# Altium footprint library THT_potantiometer_pcb.PcbLib: 1 footprints
Each footprint in its own frame and in the unit in brackets; x right, y up, seen from the top. Pads: shape width x height; smd on the part's side, far side on the other; paste and mask are expansions set on the pad; w line width, h text height; cw(c..) or ccw(c..) is an arc to the next point about the centre after c.
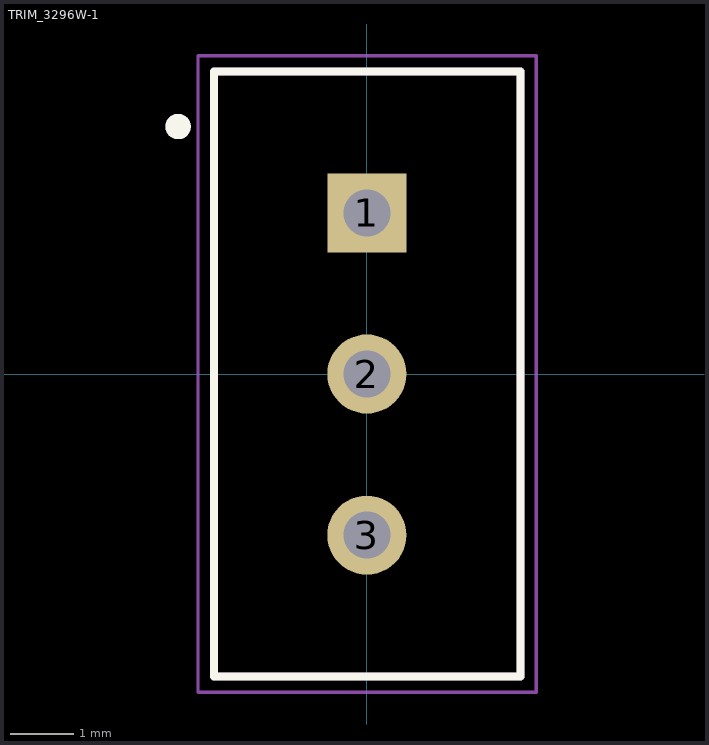
[diagram p0: the footprint, top view; thin cyan lines are the x and y axes]

## TRIM_3296W-1 [mm]
pads (3):
  rect 1.248x1.248 hole 0.74: 1(0,2.54)
  round 1.248 hole 0.74: 2(0,0) 3(0,-2.54)
Top Overlay:
  circle w0.2: c-2.975,3.9 r0.1
  lines w0.127: -2.41,-4.765 -2.41,4.765 2.42,4.765 2.42,-4.765 -2.41,-4.765
Mechanical 13:
  circle w0.2: c-2.975,3.9 r0.1
  lines w0.127: -2.41,-4.765 2.42,-4.765 2.42,4.765 -2.41,4.765 -2.41,-4.765
Mechanical 15:
  lines w0.05: -2.66,-5.015 2.67,-5.015 2.67,5.015 -2.66,5.015 -2.66,-5.015
3D body "3296W-1-xxx.STEP": height 11.56, standoff -7.71, extent -2.41,-4.765 2.42,4.765